# Altium schematic symbol library MC78M06CDTG.SchLib: 1 symbol
Pins are listed as number, name and electrical type; pins without a type are passive.

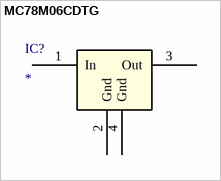
[diagram p0: symbol MC78M06CDTG]

## MC78M06CDTG
designator IC?
pins: 1 In, 2 Gnd (power), 3 Out, 4 Gnd (power)